# Altium footprint library WE-SCC.PcbLib: 3 footprints
Each footprint in its own frame and in the unit in brackets; x right, y up, seen from the top. Pads: shape width x height; smd on the part's side, far side on the other; paste and mask are expansions set on the pad; w line width, h text height; cw(c..) or ccw(c..) is an arc to the next point about the centre after c.
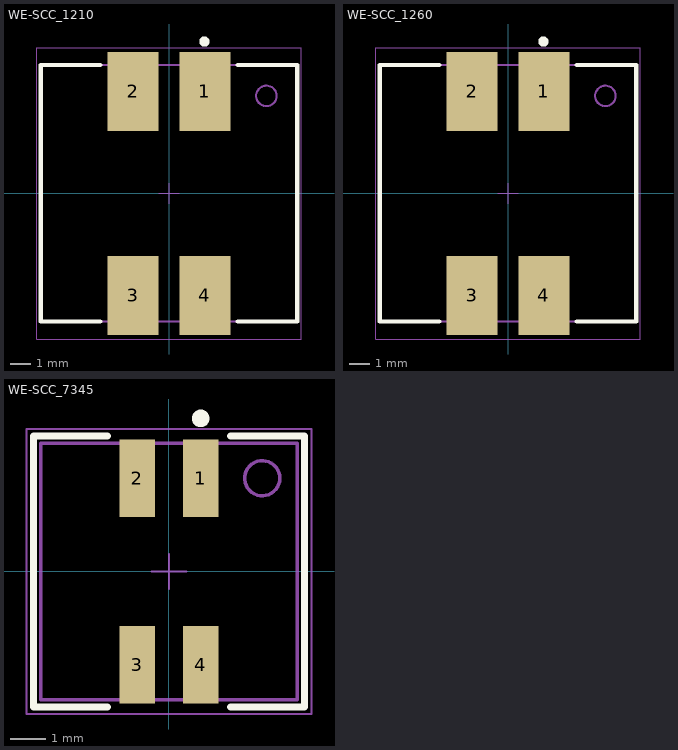
[diagram p0: the footprints below, top view; thin cyan lines are the x and y axes]

## WE-SCC_1210 [mm] "SMD Common Mode Line Filter, 4-Leads, body 12.5x12.5mm"
height 10.5
pads (4):
  rect 2.5x3.85 smd: 1(1.75,4.975) 2(-1.75,4.975) 3(-1.75,-4.975) 4(1.75,-4.975)
Top Overlay:
  circle w0.25: c1.725,7.4 r0.125
  lines w0.2: -3.35,-6.25 -6.25,-6.25 -6.25,6.25 -3.35,6.25 ; 3.35,-6.25 6.25,-6.25 6.25,6.25 3.35,6.25
Top Designator:
  text ".Designator" at -7.498,-0.5 h1.5
Top Component Outline:
  circle w0.1: c4.75,4.75 r0.5
  lines w0.1: -6.25,-6.25 6.25,-6.25 6.25,6.25 -6.25,6.25 -6.25,-6.25
Top 3D Body:
  circle w0.1: c4.75,4.75 r0.5
  lines w0.1: -6.25,-6.25 6.25,-6.25 6.25,6.25 -6.25,6.25 -6.25,-6.25
Top Courtyard:
  lines w0.05: -0.5,0 0.5,0 ; 0,-0.5 0,0.5 ; -6.45,-7.1 6.45,-7.1 6.45,7.1 -6.45,7.1 -6.45,-7.1
3D body "744284xxx.stp": height 10.55, standoff 0.05, extent -6.25,-6.25 6.25,6.25

## WE-SCC_1260 [mm] "SMD Common Mode Line Filter, 4-Leads, body 12.5x12.5mm"
height 6.5
pads (4):
  rect 2.5x3.85 smd: 1(1.75,4.975) 2(-1.75,4.975) 3(-1.75,-4.975) 4(1.75,-4.975)
Top Overlay:
  circle w0.25: c1.725,7.4 r0.125
  lines w0.2: -3.35,-6.25 -6.25,-6.25 -6.25,6.25 -3.35,6.25 ; 3.35,-6.25 6.25,-6.25 6.25,6.25 3.35,6.25
Top Designator:
  text ".Designator" at -7.498,-0.5 h1.5
Top Component Outline:
  circle w0.1: c4.75,4.75 r0.5
  lines w0.1: -6.25,-6.25 -6.25,6.25 6.25,6.25 6.25,-6.25 -6.25,-6.25
Top 3D Body:
  circle w0.1: c4.75,4.75 r0.5
  lines w0.1: -6.25,-6.25 -6.25,6.25 6.25,6.25 6.25,-6.25 -6.25,-6.25
Top Courtyard:
  lines w0.05: -0.5,0 0.5,0 ; 0,-0.5 0,0.5 ; -6.45,-7.1 -6.45,7.1 6.45,7.1 6.45,-7.1 -6.45,-7.1
3D body "744282xxx.stp": height 6.65, standoff 0.05, extent -6.25,-6.25 6.25,6.25

## WE-SCC_7345 [mm] "SMD Common Mode Line Filter, 4-Leads, body 7.3x7.3mm"
height 4.8
pads (4):
  rect 1x2.2 smd: 1(0.9,2.65) 2(-0.9,2.65) 3(-0.9,-2.65) 4(0.9,-2.65)
Top Overlay:
  circle w0.25: c0.9,4.35 r0.125
  lines w0.2: -1.75,-3.85 -3.85,-3.85 -3.85,3.85 -1.75,3.85 ; 1.75,-3.85 3.85,-3.85 3.85,3.85 1.75,3.85
Top Designator:
  text ".Designator" at -7.498,-0.5 h1.5
Top Component Outline:
  circle w0.1: c2.65,2.65 r0.5
  lines w0.1: -3.65,-3.65 3.65,-3.65 3.65,3.65 -3.65,3.65 -3.65,-3.65
Top 3D Body:
  circle w0.1: c2.65,2.65 r0.5
  lines w0.1: -3.65,-3.65 3.65,-3.65 3.65,3.65 -3.65,3.65 -3.65,-3.65
Top Courtyard:
  lines w0.05: -0.5,0 0.5,0 ; 0,-0.5 0,0.5 ; -4.05,-4.05 4.05,-4.05 4.05,4.05 -4.05,4.05 -4.05,-4.05
3D body "744281xxx.stp": height 4.85, standoff 0.05, extent -3.65,-3.65 3.65,3.65